# Altium schematic symbol library IND,2.7nH,800mA,Multilayer,0402.Schlib: 1 symbol
Pins are listed as number, name and electrical type; pins without a type are passive.

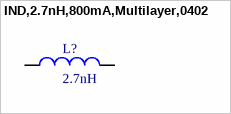
[diagram p0: symbol IND,2.7nH,800mA,Multilayer,0402]

## IND,2.7nH,800mA,Multilayer,0402
designator L?, comment 2.7nH
2.7nH Unshielded Multilayer Inductor 800mA 150mOhm Max 0402 (1005 Metric)
pins: 1, 2